# Altium integrated library Texas Instruments Interface USB.IntLib: 91 symbols (part 9 of 12)
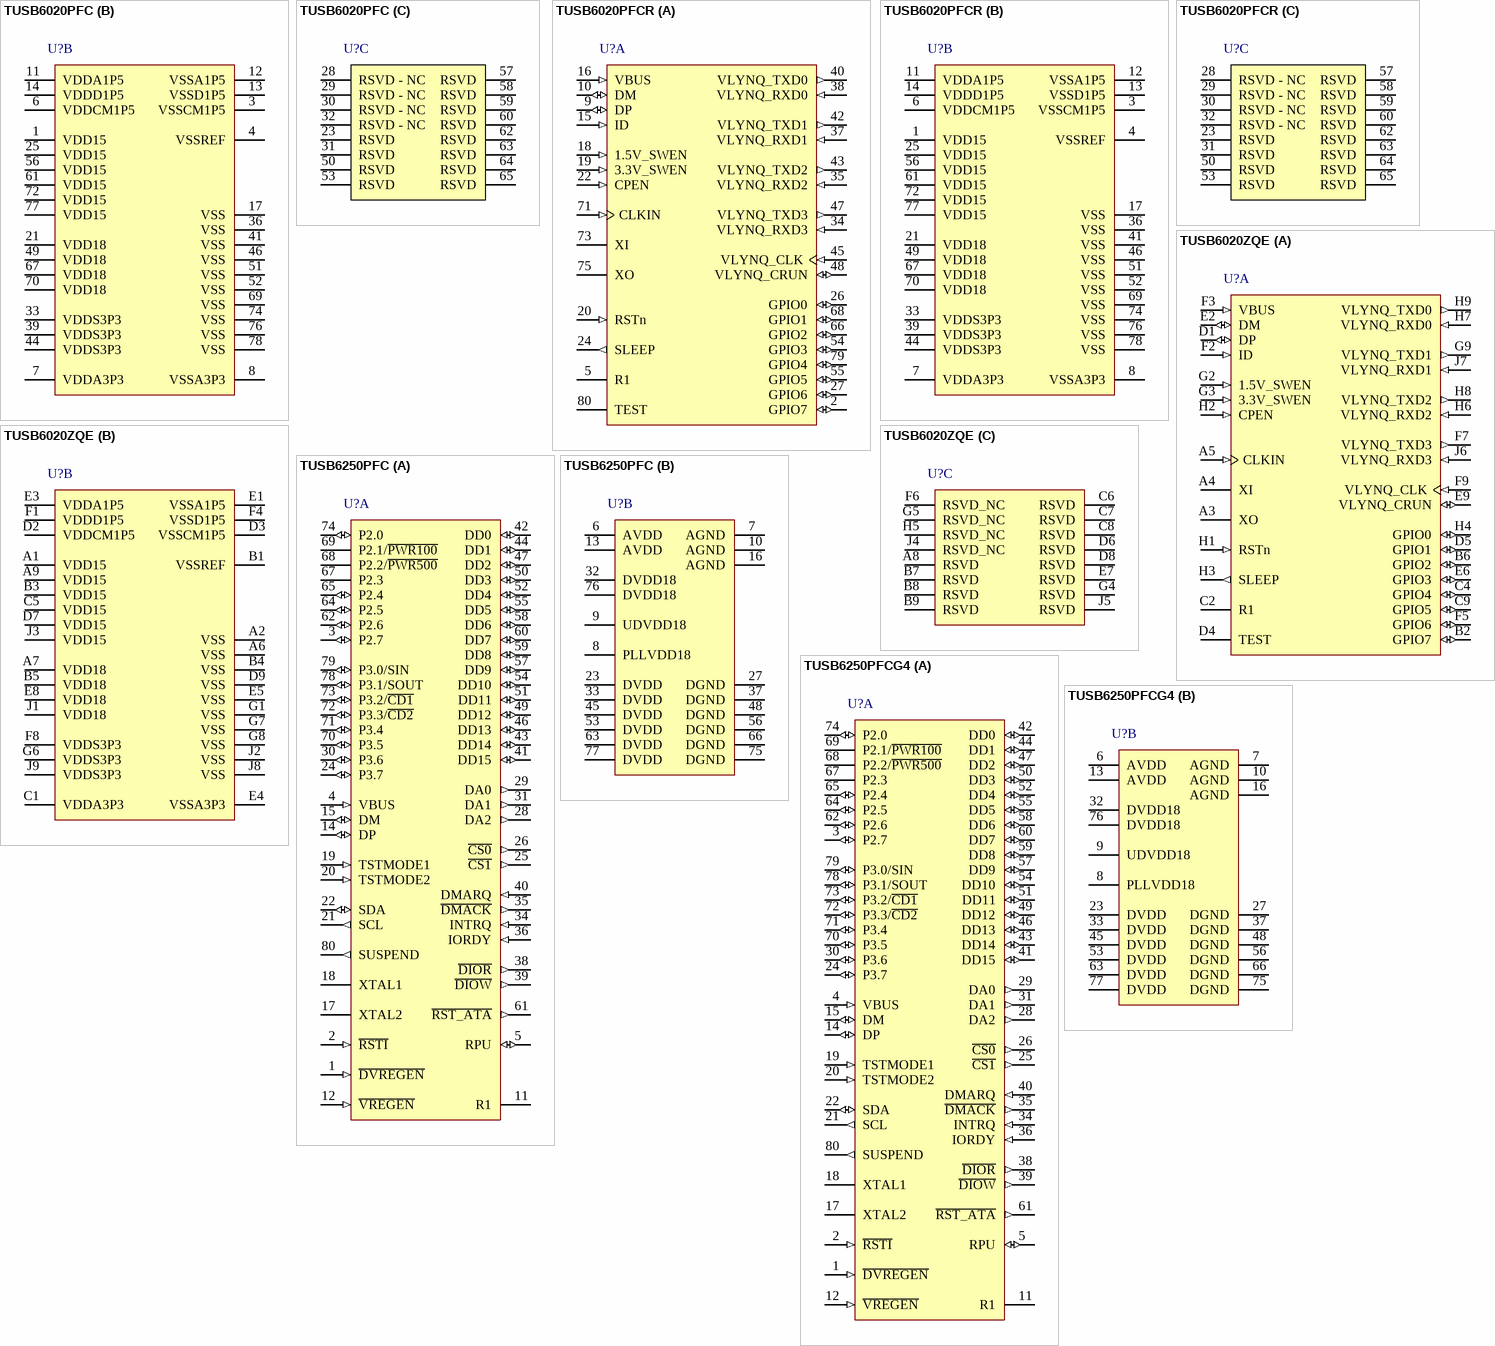
[diagram p16: symbols TUSB6020PFC to TUSB6250PFCG4]

## TUSB6250PFCG4
designator U?
30 MIPs, USB 2.0 Low-Power, High-Speed ATA/ATAPI Bridge Solution, 32 KBytes, 8051 WARP, 3.3V, 0 to 70 degC, 80-Pin TQFP (PFC), Green (RoHS & no Sb/Br); PartNumber: TUSB6250PFCG4; Manufacturer: Texas Instruments; SubFamily: USB Peripheral; MCU Speed(Max)(MIPs): 30; Number of Endpoints IN: 4; Supply Voltage(s)(V): 3.3; Application Interface: IDE, ATA, ATAPI; GPIO Pins(#): 16; USB Speed: High; Bulk Transfer: True; MCU Code Space(KBytes): 32; DatasheetVersion: SLLS535E; PackageVersion: revB, Nov-1996; PackageReference: PFC80; PackageDescription: 80-Pin Plastic Quad Flat Pack, 12 x 12 mm Body, 0.5 mm Pitch; Mounting Technology: Surface Mount; Eco-Plan: Green (RoHS & no Sb/Br); Number of Endpoints OUT: 4; Integrated MCU Architecture: 8051 WARP; Control Transfer: True; DMA: True; Interrupt Transfer: True; Remote Wakeup: True; Code_JEDEC: MS-026; ComponentLink1Description: Datasheet; ComponentLink1URL: http://www.ti.com/general/docs/lit/getliterature.tsp?genericPartNumber=TUSB6250&fileType=pdf; ComponentLink2Description: Package Specification; ComponentLink2URL: http://www.ti.com/litv/pdf/mtqf009a
footprint PFC80_N (Thin QFP, 80-Leads, Body 12x12mm, Pitch 0.5mm, IPC Medium Density)
footprint PFC80_L (Thin QFP, 80-Leads, Body 12x12mm, Pitch 0.5mm, IPC High Density)
footprint PFC80_M (Thin QFP, 80-Leads, Body 12x12mm, Pitch 0.5mm, IPC Low Density)
part A pins: 1 ~{DVREGEN} (in) "This active-low terminal is used to enable the 3.3-V to 1.8-V voltage regulator in the TUSB6250’s digital core. When this terminal is de-asserted, the voltage regulator is disabled and 1.8 V must be supplied externally. TI (See Datasheet)", 2 ~{RSTI} (in) "The TUSB6250 master reset signal. This active-low terminal is the master reset signal for the TUSB6250. See Section 13.2, Reset Timing Reference, for  detailed reset timing information.", 3 P2.7 (io) "General-purpose I/O with an internal controllable pullup resistor. After a power-on reset, this terminal defaults as an input with an internal pullup resistor activated. The MCU can disable the pullup resistor if desired", 4 VBUS (in) "This terminal monitors the status of the USB upstream VBUS. It has the internal pulldown resistor enabled as the power-on reset default.", 5 RPU (io) "Pullup resistor connection. This terminal is used to attach and detach the full-speed indicator resistor electrically to/from the DP signal line. An external 1.5-k ohm  +/-5% resistor must be placed between RPU and AVDD.", 11 R1 "External reference resistor. An internally generated band-gap voltage is placed on this resistor. The current through the resistor is mirrored internally to generate the current and voltage used by the internal analog (See Datasheet)", 12 ~{VREGEN} (in) "Voltage regulator enable (active-low). Two internal 3.3-V to 1.8-V voltage regulators supply the digital and PLL circuitry when this terminal is asserted. When this terminal is de-asserted, the voltage regulators are (See Datasheet)", 14 DP (io) "USB differential data plus", 15 DM (io) "USB differential data minus", 17 XTAL2 "24-MHz crystal output. This terminal has a 1.8-V LVCMOS output buffer", 18 XTAL1 "24-MHz crystal input. This terminal has a 1.8-V LVCMOS input buffer", 19 TSTMODE1 (in) "These terminals are used for factory test of the TUSB6250. During normal operation, these terminals must be left open", 20 TSTMODE2 (in) "These terminals are used for factory test of the TUSB6250. During normal operation, these terminals must be left open", 21 SCL (out) "Master I2C controller: clock signal for external I2C serial EEPROM. The internal 100-uA pullup resistor on this terminal is always enabled.", 22 SDA (io) "Master I2C controller: data signal for external I2C serial EEPROM. The internal 100-uA pullup resistor on this terminal is always enabled.", 24 P3.7 (io) "5-V fail-safe general-purpose I/O with internal configurable pullup and pulldown resistors. This terminal can be used as a GPIO or P\D\I\A\G\ function to be implemented by the end-product developerdeveloper’s custom firmware.(See Datasheet)", 25 ~{CS1} (out) "ATA/ATAPI: Drive chip select-1. Used to select the control block registers defined by the ATA/ATAPI-5 specification. This terminal should be connected to the corresponding pin of the ATA/ATAPI interface connector on the (See Datasheet)", 26 ~{CS0} (out) "ATA/ATAPI: Drive chip select-0. Used to select the command block registers defined by the ATA/ATAPI-5 specification. This terminal should be connected to the corresponding pin of the ATA/ATAPI interface connector on the (See Datasheet)", 28 DA2 (out) "ATA/ATAPI: These three address lines are used to select the ATA/ATAPI drive registers as defined by the ATA/ATAPI-5 specification. These terminals should be connected to the corresponding pins of the ATA/ATAPI interface (See Datasheet)", 29 DA0 (out) "ATA/ATAPI: These three address lines are used to select the ATA/ATAPI drive registers as defined by the ATA/ATAPI-5 specification. These terminals should be connected to the corresponding pins of the ATA/ATAPI interface (See Datasheet)", 30 P3.6 (io) "5-V fail-safe general-purpose I/O with internal configurable pullup and pulldown resistors. This terminal can be used as a GPIO or P\D\I\A\G\ function to be implemented by the end-product developerdeveloper’s custom firmware.(See Datasheet)", 31 DA1 (out) "ATA/ATAPI: These three address lines are used to select the ATA/ATAPI drive registers as defined by the ATA/ATAPI-5 specification. These terminals should be connected to the corresponding pins of the ATA/ATAPI interface (See Datasheet)", 34 INTRQ (in) "ATA/ATAPI: Interrupt request. The ATA device asserts this signal when it has a pending interrupt. This 5-V fail-safe terminal has internal configurable pullup and pulldown resistors. The power-up default is the pulldown (See Datasheet)", 35 ~{DMACK} (out) "ATA/ATAPI: DMA acknowledge. This terminal should be connected to the corresponding pin of the ATA/ATAPI interface connector on the end-product PCB", 36 IORDY (in) "ATA/ATAPI: Channel ready. This 5-V fail-safe terminal has internal configurable pullup and pulldown resistors. The power-up default is the pullup resistor enabled. This terminal should be connected to the corresponding pin (See Datasheet)", 38 ~{DIOR} (out) "ATA/ATAPI: Read strobe signal. This terminal should be connected to the corresponding pin of the ATA/ATAPI interface connector on the end-product PCB", 39 ~{DIOW} (out) "ATA/ATAPI: Write strobe signal. This terminal should be connected to the corresponding pin of the ATA/ATAPI interface connector on the end-product PCB", 40 DMARQ (in) "ATA/ATAPI: DMA request. This 5-V fail-safe terminal has an internal controllable pulldown resistor. The power-up default is the pulldown resistor enabled. This terminal should be connected to the corresponding pin of the (See Datasheet)", 41 DD15 (io) "ATA/ATAPI: 16-bit I/O data bus. These terminals are all 5-V fail-safe with internal controllable pulldown resistors. These terminals should be connected to the corresponding pins of the ATA/ATAPI interface connector on the (See Datasheet)", 42 DD0 (io) "ATA/ATAPI: 16-bit I/O data bus. These terminals are all 5-V fail-safe with internal controllable pulldown resistors. These terminals should be connected to the corresponding pins of the ATA/ATAPI interface connector on the (See Datasheet)", 43 DD14 (io) "ATA/ATAPI: 16-bit I/O data bus. These terminals are all 5-V fail-safe with internal controllable pulldown resistors. These terminals should be connected to the corresponding pins of the ATA/ATAPI interface connector on the (See Datasheet)", 44 DD1 (io) "ATA/ATAPI: 16-bit I/O data bus. These terminals are all 5-V fail-safe with internal controllable pulldown resistors. These terminals should be connected to the corresponding pins of the ATA/ATAPI interface connector on the (See Datasheet)", 46 DD13 (io) "ATA/ATAPI: 16-bit I/O data bus. These terminals are all 5-V fail-safe with internal controllable pulldown resistors. These terminals should be connected to the corresponding pins of the ATA/ATAPI interface connector on the (See Datasheet)", 47 DD2 (io) "ATA/ATAPI: 16-bit I/O data bus. These terminals are all 5-V fail-safe with internal controllable pulldown resistors. These terminals should be connected to the corresponding pins of the ATA/ATAPI interface connector on the (See Datasheet)", 49 DD12 (io) "ATA/ATAPI: 16-bit I/O data bus. These terminals are all 5-V fail-safe with internal controllable pulldown resistors. These terminals should be connected to the corresponding pins of the ATA/ATAPI interface connector on the (See Datasheet)", 50 DD3 (io) "ATA/ATAPI: 16-bit I/O data bus. These terminals are all 5-V fail-safe with internal controllable pulldown resistors. These terminals should be connected to the corresponding pins of the ATA/ATAPI interface connector on the (See Datasheet)", 51 DD11 (io) "ATA/ATAPI: 16-bit I/O data bus. These terminals are all 5-V fail-safe with internal controllable pulldown resistors. These terminals should be connected to the corresponding pins of the ATA/ATAPI interface connector on the (See Datasheet)", 52 DD4 (io) "ATA/ATAPI: 16-bit I/O data bus. These terminals are all 5-V fail-safe with internal controllable pulldown resistors. These terminals should be connected to the corresponding pins of the ATA/ATAPI interface connector on the (See Datasheet)", 54 DD10 (io) "ATA/ATAPI: 16-bit I/O data bus. These terminals are all 5-V fail-safe with internal controllable pulldown resistors. These terminals should be connected to the corresponding pins of the ATA/ATAPI interface connector on the (See Datasheet)", 55 DD5 (io) "ATA/ATAPI: 16-bit I/O data bus. These terminals are all 5-V fail-safe with internal controllable pulldown resistors. These terminals should be connected to the corresponding pins of the ATA/ATAPI interface connector on the (See Datasheet)", 57 DD9 (io) "ATA/ATAPI: 16-bit I/O data bus. These terminals are all 5-V fail-safe with internal controllable pulldown resistors. These terminals should be connected to the corresponding pins of the ATA/ATAPI interface connector on the (See Datasheet)", 58 DD6 (io) "ATA/ATAPI: 16-bit I/O data bus. These terminals are all 5-V fail-safe with internal controllable pulldown resistors. These terminals should be connected to the corresponding pins of the ATA/ATAPI interface connector on the (See Datasheet)", 59 DD8 (io) "ATA/ATAPI: 16-bit I/O data bus. These terminals are all 5-V fail-safe with internal controllable pulldown resistors. These terminals should be connected to the corresponding pins of the ATA/ATAPI interface connector on the (See Datasheet)", 60 DD7 (io) "ATA/ATAPI: 16-bit I/O data bus. These terminals are all 5-V fail-safe with internal controllable pulldown resistors. These terminals should be connected to the corresponding pins of the ATA/ATAPI interface connector on the (See Datasheet)", 61 ~{RST_ATA} (out) "ATA/ATAPI: Asynchronous drive-reset signal. This terminal should be connected to the corresponding pin of the ATA/ATAPI interface connector on the end-product PCB", 62 P2.6 (io) "5-V fail-safe general-purpose I/O with internal configurable pullup and pulldown resistors. After power-on reset, these terminals default as inputs with the internal pullup resistor activated. The MCU can reconfigure the (See Datasheet)", 64 P2.5 (io) "5-V fail-safe general-purpose I/O with internal configurable pullup and pulldown resistors. After power-on reset, these terminals default as inputs with the internal pullup resistor activated. The MCU can reconfigure the (See Datasheet)", 65 P2.4 (io) "5-V fail-safe general-purpose I/O with internal configurable pullup and pulldown resistors. After power-on reset, these terminals default as inputs with the internal pullup resistor activated. The MCU can reconfigure the (See Datasheet)", 67 P2.3 (oc) "General-purpose open-drain output without internal pullup and pulldown resistors", 68 P2.2/~{PWR500} (oc) "General-purpose open-drain output. This terminal can be controlled by the firmware to inform the ATA/ATAPI device connected to the TUSB6250 that the end-product device (including the TUSB6250 itself) is allowed to draw 500 (See Datasheet)", 69 P2.1/~{PWR100} (oc) "General-purpose open-drain output. During the USB enumeration phase, This terminal is asserted by the boot code to inform the ATA/ATAPI device connected to the TUSB6250 that the end-product device (including the TUSB6250 (See Datasheet)", 70 P3.5 (io) "5-V fail-safe general-purpose I/O with internal configurable pullup and pulldown resistors. After power-on reset, these terminals default as inputs with an internal pullup resistor activated. The MCU can reconfigure the (See Datasheet)", 71 P3.4 (io) "5-V fail-safe general-purpose I/O with internal configurable pullup and pulldown resistors. After power-on reset, these terminals default as inputs with an internal pullup resistor activated. The MCU can reconfigure the (See Datasheet)", 72 P3.3/~{CD2} (io) "5-V fail-safe general-purpose I/O with internal configurable pullup and pulldown resistors. After power-on reset, these terminals default as inputs with an internal pullup resistor activated. The MCU can reconfigure the (See Datasheet)", 73 P3.2/~{CD1} (io) "5-V fail-safe general-purpose I/O with internal configurable pullup and pulldown resistors. After power-on reset, these terminals default as inputs with an internal pullup resistor activated. The MCU can reconfigure the (See Datasheet)", 74 P2.0 (io) "5-V fail-safe general-purpose I/O with internal configurable pullup and pulldown resistors. After power-on reset, this terminal defaults as an input with the internal pulldown resistor activated. The MCU can reconfigure the (See Datasheet)", 78 P3.1/SOUT (io) "This dual-function terminal can be used as either GPIO or the serial data output of the integrated 8051 microcontroller serial port. The power-up default is to have its internal pullup activated", 79 P3.0/SIN (io) "This dual-function terminal can be used as either GPIO or the serial data input of the integrated 8051 microcontroller serial port. The power-up default is to have its internal pullup activated", 80 SUSPEND (out) "Suspend status indication. This terminal is low during normal operation and active high during suspend. It can be used for external logic power-down operations"
part B pins: 6 AVDD (power) "3.3-V supply voltage for the integrated USB 2.0 UTMI-compliant PHY’s internal analog circuitry. This supply is also regulated internally down to 1.8 V for use by the PHY’s internal digital circuitry when V\R\E\G\E\N\ is (See Datasheet)", 7 AGND (power) "Analog ground. All ground terminals should be connected together externally through a low-impedance path. All bypass capacitors to PLLVDD18, UDVDD18, and AVDD should connect to ground through a low-impedance path", 8 PLLVDD18 (power) "1.8-V supply for the internal PLL circuitry of the integrated USB 2.0 UTMI-compliant PHY. An internal voltage regulator generates this supply when terminal V\R\E\G\E\N\ is asserted. When V\R\E\G\E\N\ is de-asserted, 1.8 V (See Datasheet)", 9 UDVDD18 (power) "1.92-V supply for the internal digital circuitry of the integrated USB 2.0 UTMI-compliant PHY. An internal voltage regulator generates this supply when terminal V\R\E\G\E\N\ is asserted. When V\R\E\G\E\N\ is de-asserted, 1.(See Datasheet)", 10 AGND (power) "Analog ground. All ground terminals should be connected together externally through a low-impedance path. All bypass capacitors to PLLVDD18, UDVDD18, and AVDD should connect to ground through a low-impedance path", 13 AVDD (power) "3.3-V supply voltage for the integrated USB 2.0 UTMI-compliant PHY’s internal analog circuitry. This supply is also regulated internally down to 1.8 V for use by the PHY’s internal digital circuitry when V\R\E\G\E\N\ is (See Datasheet)", 16 AGND (power) "Analog ground. All ground terminals should be connected together externally through a low-impedance path. All bypass capacitors to PLLVDD18, UDVDD18, and AVDD should connect to ground through a low-impedance path", 23 DVDD (power) "3.3-V power-supply terminals for the internal I/O circuitry. Decoupling and filtering capacitors are required on these power supply terminals", 27 DGND (power) "Digital circuit ground terminals. Each ground terminal should be directly connected through a low-impedance path to the ground plane", 32 DVDD18 (power) "1.8-V power supply for the internal digital circuitry of the TUSB6250. An internal voltage regulator generates this supply voltage when terminal D\V\R\E\G\E\N\ is asserted. When D\V\R\E\G\E\N\ is de-asserted, 1.8 V must be (See Datasheet)", 33 DVDD (power) "3.3-V power-supply terminals for the internal I/O circuitry. Decoupling and filtering capacitors are required on these power supply terminals", 37 DGND (power) "Digital circuit ground terminals. Each ground terminal should be directly connected through a low-impedance path to the ground plane", 45 DVDD (power) "3.3-V power-supply terminals for the internal I/O circuitry. Decoupling and filtering capacitors are required on these power supply terminals", 48 DGND (power) "Digital circuit ground terminals. Each ground terminal should be directly connected through a low-impedance path to the ground plane", 53 DVDD (power) "3.3-V power-supply terminals for the internal I/O circuitry. Decoupling and filtering capacitors are required on these power supply terminals", 56 DGND (power) "Digital circuit ground terminals. Each ground terminal should be directly connected through a low-impedance path to the ground plane", 63 DVDD (power) "3.3-V power-supply terminals for the internal I/O circuitry. Decoupling and filtering capacitors are required on these power supply terminals", 66 DGND (power) "Digital circuit ground terminals. Each ground terminal should be directly connected through a low-impedance path to the ground plane", 75 DGND (power) "Digital circuit ground terminals. Each ground terminal should be directly connected through a low-impedance path to the ground plane", 76 DVDD18 (power) "1.8-V power supply for the internal digital circuitry of the TUSB6250. An internal voltage regulator generates this supply voltage when terminal D\V\R\E\G\E\N\ is asserted. When D\V\R\E\G\E\N\ is de-asserted, 1.8 V must be (See Datasheet)", 77 DVDD (power) "3.3-V power-supply terminals for the internal I/O circuitry. Decoupling and filtering capacitors are required on these power supply terminals"

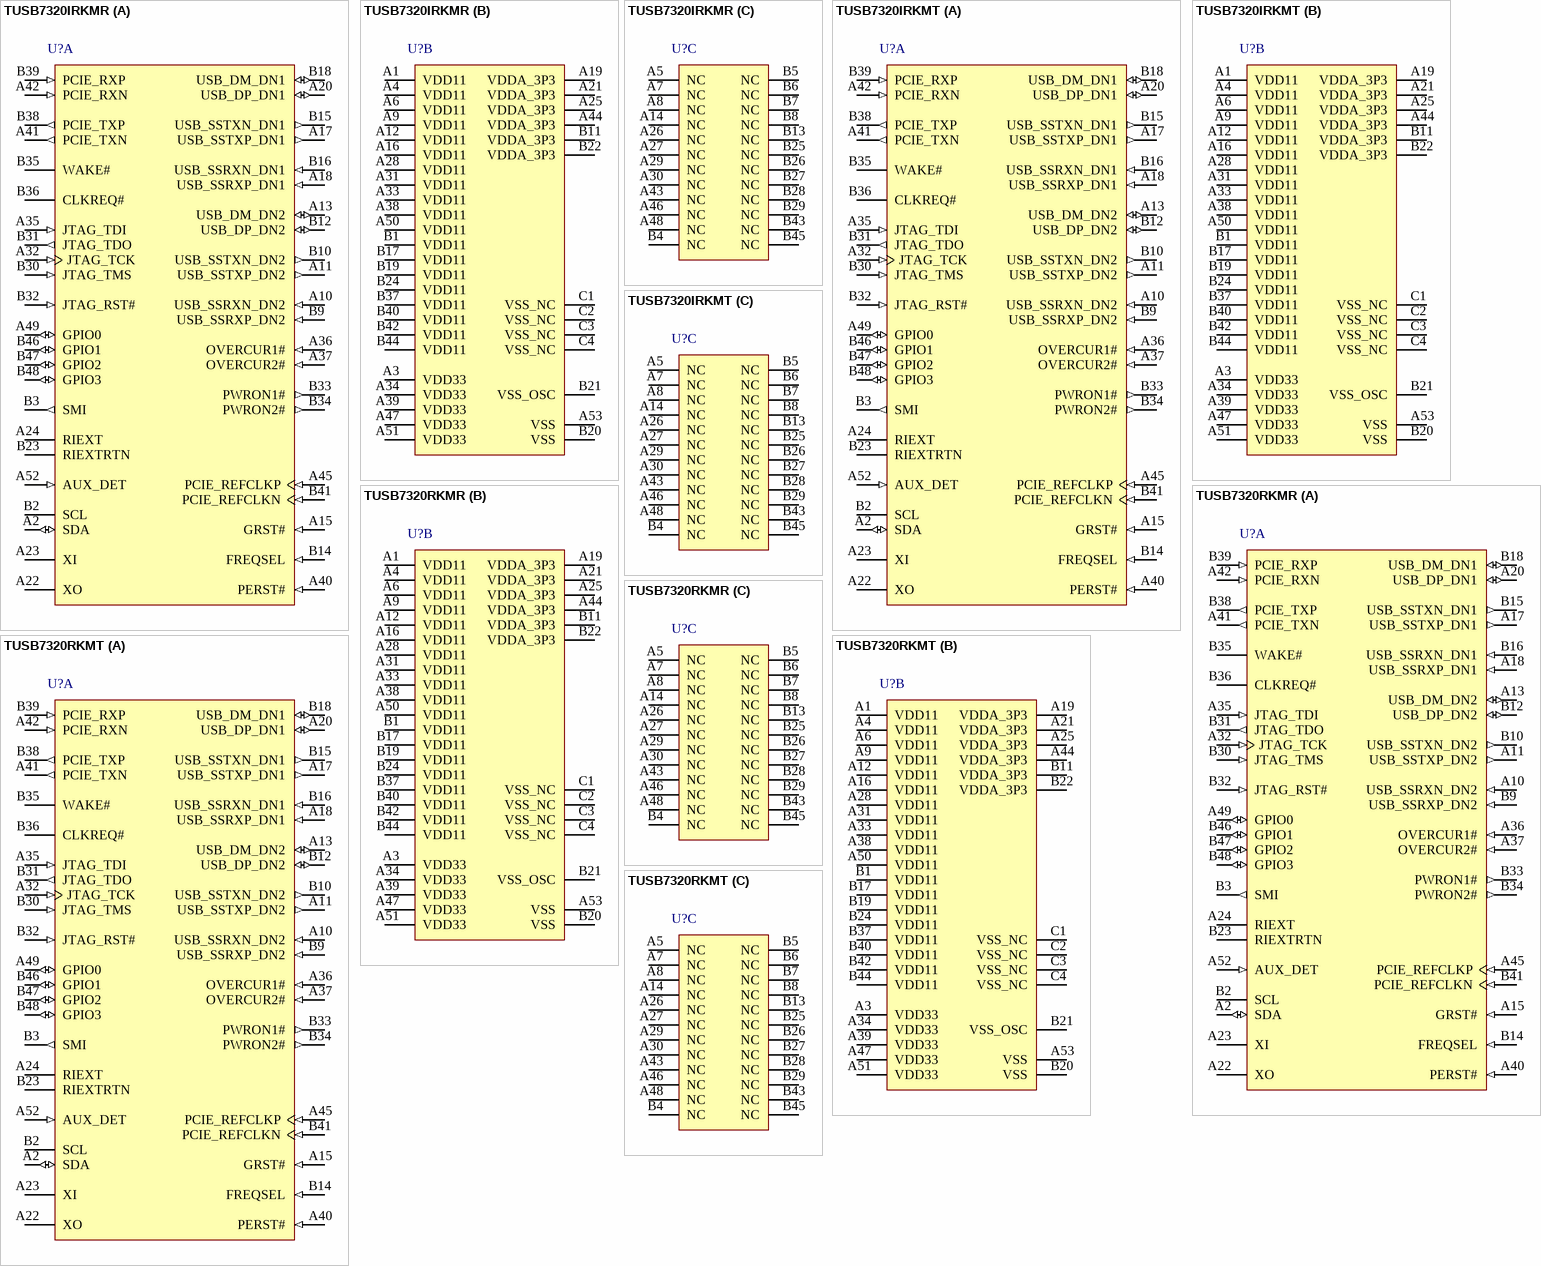
[diagram p6: symbols TUSB7320IRKMR to TUSB7320RKMT]

## TUSB7320IRKMR
designator U?
SuperSpeed USB 2-Port xHCI Host Controller, 1.1 / 3.3V, -40 to 85 degC, 100-Pin WQFN (RKM), Green (RoHS & no Sb/Br); PartNumber: TUSB7320IRKMR; Manufacturer: Texas Instruments; SubFamily: USB Host and On-the-Go; Supply Voltage(s)(V): 3.3, 1.1; Max# Host Ports: 2; App Proc Local Bus: x1 PCIe Gen2; DatasheetVersion: SLLSE76H; PackageVersion: revC, Oct-2011; PackageReference: RKM100-5500X5500TP; PackageDescription: 100-Pin Plastic Quad Flatpack No-Lead 0.6 mm Pitch; Mounting Technology: Surface Mount; Eco-Plan: Green (RoHS & no Sb/Br); USB Speed: SuperSpeed; ComponentLink1Description: Datasheet; ComponentLink1URL: http://www.ti.com/general/docs/lit/getliterature.tsp?genericPartNumber=TUSB7320&fileType=pdf; ComponentLink2Description: Package Specification; ComponentLink2URL: http://www.ti.com/litv/pdf/mpqf258b
footprint RKM100-5500X5500TP (QFN, 100-Leads, Body 9x9mm, Pitch 0.6mm, Thermal Pad 4.6x4.6mm, TI Recommended)
part A pins: A2 SDA (io) "I2C Data - If no I2C device is present, pull this line down to disable.", A10 USB_SSRXN_DN2 (in) "USB SuperSpeed receiver differential pair (negative). Note: When routing, it is permissible to swap the positive and negative signals in Port 2 SSRX differential pair.", A11 USB_SSTXP_DN2 (out) "USB SuperSpeed transmitter differential pair (positive).  Note: When routing, it is permissible to swap the positive and negative signals in Port 2 SSTX differential pair.", A13 USB_DM_DN2 (io) "USB High-speed differential transceiver (negative).", A15 GRST# (in) "Global power reset. This reset brings all of the TUSB73x0 internal registers to their defaut states.When GRST# is asserted,the device is completely nonfunctional.GRST# should be asserted until all power rails are valid at the device", A17 USB_SSTXP_DN1 (out) "USB SuperSpeed transmitter differential pair(postive).Note:When routing,it is permissible to sawp the positive and negative signals in port 1 SSTX differential pair", A18 USB_SSRXP_DN1 (in) "USB SuperSpeed receiver differential pair(postive).Note:When routing,it is permissible to sawp the positive and negative signals in port 1 SSRX differential pair", A20 USB_DP_DN1 (io) "USB High-speed differential transceiver (positive).", A22 XO "Crystal output. This terminal is crystal output for the internal oscillator. If XI is driven by an external oscillator this pin may be left unconnected. When using a crystal a 2-M ohm feedback resistor is required between XI and XO.", A23 XI "Crystal input. This terminal is the crystal input for the internal oscillator. The input may alternately be driven by the output of an external oscillator. When using a crystal a 2-M ohm feedback resistor is required between XI and XO.", A24 RIEXT "High precision external resistor used for calibration. A resister value of 9.09 Kohm +/-1%accuracy is connected between the terminals R1EXT and R1EXTRTN.", A32 JTAG_TCK (in) "JTAG test clock", A35 JTAG_TDI (in) "JTAG test data in", A36 OVERCUR1# (in) "USB DS Port 1 Over-Current Detection.0: over-current detected; 1: over-current not detected", A37 OVERCUR2# (in) "USB DS Port 2 Over-Current Detection.0: over-current detected; 1: over-current not detected", A40 PERST# (in) "PCI Express Reset Input. The PERST# signal is used to signal when the system power is stable. The PERST# signal is also used to generate an internal power on reset", A41 PCIE_TXN (out) "PCI Express transmitter differential pair (negative).", A42 PCIE_RXN (in) "PCI Express receiver differential pair (negative).", A45 PCIE_REFCLKP (in) "PCI Express Reference Clock. PCIE_REFCLKP and PCIE_REFCLKN comprise the differential input pair for the 100-MHz system reference clock.", A49 GPIO0 (io) "General purpose I/O", A52 AUX_DET (in) "Auxiliary power detect. This pin indicates if the TUSB73X0 is enabled for wakeup from D3cold. Note: If this feature is implemented, AUX_DET must be pulled to VDD33 to prevent leakage.", B2 SCL (hiz) "I2C Clock - If no I2C device is present, pull this line down to disable.", B3 SMI (out) "System management interrupt Note: This pin is active high and should not be pulled up/down.", B9 USB_SSRXP_DN2 (in) "USB SuperSpeed receiver differential pair (positive). Note: When routing, it is permissible to swap the positive and negative signals in Port 2 SSRX differential pair.", B10 USB_SSTXN_DN2 (out) "USB SuperSpeed transmitter differential pair (negative).Note: When routing, it is permissible to swap the positive and negative signals in Port 2 SSTX differential pair.", B12 USB_DP_DN2 (io) "USB High-speed differential transceiver (positive).", B14 FREQSEL (in) "Frequency select. This terminal indicates the oscillator input frequency and is used to configure the correct PLL multiplier. If the FREQSEL pin is '0', the frequency used is 48 MHz. If the FREQSEL pin is '1', refer to Table 4-100: USB Control Register D", B15 USB_SSTXN_DN1 (out) "USB SuperSpeed transmitter differential pair (negative).Note: When routing, it is permissible to swap the positive and negative signals in Port 1 SSTX differential pair.", B16 USB_SSRXN_DN1 (in) "USB SuperSpeed receiver differential pair(negative).Note:When routing,it is permissible to sawp the positive and negative signals in port 1 SSrX differential pair", B18 USB_DM_DN1 (io) "USB High-speed differential transceiver (negative).", B23 RIEXTRTN "High precision external resistor used for calibration. A resister value of 9.09 Kohm +/-1%accuracy is connected between the terminals R1EXT and R1EXTRTN.", B30 JTAG_TMS (in) "JTAG test mode select", B31 JTAG_TDO (out) "JTAG test data out", B32 JTAG_RST# (in) "JTAG reset. Should be pulled low for normal operation.", B33 PWRON1# (out) "USB DS Port 1 Power On Control for Downstream Power. The terminal is used for control of the downstream power switch. If the PWRON_POLARITY bit is set to", B34 PWRON2# (out) "USB DS Port 2 Power On Control for Downstream Power. The terminal is used for control of the downstream power switch. If the PWRON_POLARITY bit is set to", B35 WAKE# "Wake. Wake is an active low signal that is driven low to reactivate the PCI Express link hierarchy's main power rails and reference clocks.Note:WAKE# is a failsafe I/O and can be connected to a 3.3-V auxiliary supply while VDD33 is not present.", B36 CLKREQ# "PCI Express REFCLK Request signal.Note: CLKREQ# is a failsafe I/O and can be connected to a 3.3-V auxiliary supply while VDD33 is not present.", B38 PCIE_TXP (out) "PCI Express transmitter differential pair (positive).", B39 PCIE_RXP (in) "PCI Express receiver differential pair (positive).", B41 PCIE_REFCLKN (in) "PCI Express Reference Clock. PCIE_REFCLKP and PCIE_REFCLKN comprise the differential input pair for the 100-MHz system reference clock.", B46 GPIO1 (io) "General purpose I/O", B47 GPIO2 (io) "General purpose I/O", B48 GPIO3 (io) "General purpose I/O"
part B pins: A1 VDD11 (power) "1.1-V core power rail", A3 VDD33 (power) "3.3-V I/O power rail", A4 VDD11 (power) "1.1-V core power rail", A6 VDD11 (power) "1.1-V core power rail", A9 VDD11 (power) "1.1-V core power rail", A12 VDD11 (power) "1.1-V core power rail", A16 VDD11 (power) "1.1-V core power rail", A19 VDDA_3P3 (power) "3.3-V analog power rail", A21 VDDA_3P3 (power) "3.3-V analog power rail", A25 VDDA_3P3 (power) "3.3-V analog power rail", A28 VDD11 (power) "1.1-V core power rail", A31 VDD11 (power) "1.1-V core power rail", A33 VDD11 (power) "1.1-V core power rail", A34 VDD33 (power) "3.3-V I/O power rail", A38 VDD11 (power) "1.1-V core power rail", A39 VDD33 (power) "3.3-V I/O power rail", A44 VDDA_3P3 (power) "3.3-V analog power rail", A47 VDD33 (power) "3.3-V I/O power rail", A50 VDD11 (power) "1.1-V core power rail", A51 VDD33 (power) "3.3-V I/O power rail", A53 VSS (power) "Ground. The ground pad is labeled A53 for schematic purposes.", B1 VDD11 (power) "1.1-V core power rail", B11 VDDA_3P3 (power) "3.3-V analog power rail", B17 VDD11 (power) "1.1-V core power rail", B19 VDD11 (power) "1.1-V core power rail", B20 VSS (power) "Ground. The ground pad is labeled A53 for schematic purposes.", B21 VSS_OSC (power) "Oscillator return.If using a crystal, the load capacitors should use this signal as the return path and it should not be connected to the PCB ground. If using an oscillator, this should be connected to PCB Ground.", B22 VDDA_3P3 (power) "3.3-V analog power rail", B24 VDD11 (power) "1.1-V core power rail", B37 VDD11 (power) "1.1-V core power rail", B40 VDD11 (power) "1.1-V core power rail", B42 VDD11 (power) "1.1-V core power rail", B44 VDD11 (power) "1.1-V core power rail", C1 VSS_NC (power) "The corner pins, which are for mechanical stability of the package, are connected to ground internally. These pins may be connected to VSS or left unconnected.", C2 VSS_NC (power) "The corner pins, which are for mechanical stability of the package, are connected to ground internally. These pins may be connected to VSS or left unconnected.", C3 VSS_NC (power) "The corner pins, which are for mechanical stability of the package, are connected to ground internally. These pins may be connected to VSS or left unconnected.", C4 VSS_NC (power) "The corner pins, which are for mechanical stability of the package, are connected to ground internally. These pins may be connected to VSS or left unconnected."
part C pins: A5 NC "Pins are not connected internally. Note: TUSB7320 pins B4 and B26 may be connected to VDDA_3P3 to support a dual-layout option with theTUSB7340.", A7 NC "Pins are not connected internally. Note: TUSB7320 pins B4 and B26 may be connected to VDDA_3P3 to support a dual-layout option with theTUSB7340.", A8 NC "Pins are not connected internally. Note: TUSB7320 pins B4 and B26 may be connected to VDDA_3P3 to support a dual-layout option with theTUSB7340.", A14 NC "Pins are not connected internally. Note: TUSB7320 pins B4 and B26 may be connected to VDDA_3P3 to support a dual-layout option with theTUSB7340.", A26 NC "Pins are not connected internally. Note: TUSB7320 pins B4 and B26 may be connected to VDDA_3P3 to support a dual-layout option with theTUSB7340.", A27 NC "Pins are not connected internally. Note: TUSB7320 pins B4 and B26 may be connected to VDDA_3P3 to support a dual-layout option with theTUSB7340.", A29 NC "Pins are not connected internally. Note: TUSB7320 pins B4 and B26 may be connected to VDDA_3P3 to support a dual-layout option with theTUSB7340.", A30 NC "Pins are not connected internally. Note: TUSB7320 pins B4 and B26 may be connected to VDDA_3P3 to support a dual-layout option with theTUSB7340.", A43 NC "Pins are not connected internally. Note: TUSB7320 pins B4 and B26 may be connected to VDDA_3P3 to support a dual-layout option with theTUSB7340.", A46 NC "Pins are not connected internally. Note: TUSB7320 pins B4 and B26 may be connected to VDDA_3P3 to support a dual-layout option with theTUSB7340.", A48 NC "Pins are not connected internally. Note: TUSB7320 pins B4 and B26 may be connected to VDDA_3P3 to support a dual-layout option with theTUSB7340.", B4 NC "Pins are not connected internally. Note: TUSB7320 pins B4 and B26 may be connected to VDDA_3P3 to support a dual-layout option with theTUSB7340.", B5 NC "Pins are not connected internally. Note: TUSB7320 pins B4 and B26 may be connected to VDDA_3P3 to support a dual-layout option with theTUSB7340.", B6 NC "Pins are not connected internally. Note: TUSB7320 pins B4 and B26 may be connected to VDDA_3P3 to support a dual-layout option with theTUSB7340.", B7 NC "Pins are not connected internally. Note: TUSB7320 pins B4 and B26 may be connected to VDDA_3P3 to support a dual-layout option with theTUSB7340.", B8 NC "Pins are not connected internally. Note: TUSB7320 pins B4 and B26 may be connected to VDDA_3P3 to support a dual-layout option with theTUSB7340.", B13 NC "Pins are not connected internally. Note: TUSB7320 pins B4 and B26 may be connected to VDDA_3P3 to support a dual-layout option with theTUSB7340.", B25 NC "Pins are not connected internally. Note: TUSB7320 pins B4 and B26 may be connected to VDDA_3P3 to support a dual-layout option with theTUSB7340.", B26 NC "Pins are not connected internally. Note: TUSB7320 pins B4 and B26 may be connected to VDDA_3P3 to support a dual-layout option with theTUSB7340.", B27 NC "Pins are not connected internally. Note: TUSB7320 pins B4 and B26 may be connected to VDDA_3P3 to support a dual-layout option with theTUSB7340.", B28 NC "Pins are not connected internally. Note: TUSB7320 pins B4 and B26 may be connected to VDDA_3P3 to support a dual-layout option with theTUSB7340.", B29 NC "Pins are not connected internally. Note: TUSB7320 pins B4 and B26 may be connected to VDDA_3P3 to support a dual-layout option with theTUSB7340.", B43 NC "Pins are not connected internally. Note: TUSB7320 pins B4 and B26 may be connected to VDDA_3P3 to support a dual-layout option with theTUSB7340.", B45 NC "Pins are not connected internally. Note: TUSB7320 pins B4 and B26 may be connected to VDDA_3P3 to support a dual-layout option with theTUSB7340."

## TUSB7320IRKMT
designator U?
SuperSpeed USB 2-Port xHCI Host Controller, 1.1 / 3.3V, -40 to 85 degC, 100-Pin WQFN (RKM), Green (RoHS & no Sb/Br); PartNumber: TUSB7320IRKMT; Manufacturer: Texas Instruments; SubFamily: USB Host and On-the-Go; Supply Voltage(s)(V): 3.3, 1.1; Max# Host Ports: 2; App Proc Local Bus: x1 PCIe Gen2; DatasheetVersion: SLLSE76H; PackageVersion: revC, Oct-2011; PackageReference: RKM100-5500X5500TP; PackageDescription: 100-Pin Plastic Quad Flatpack No-Lead 0.6 mm Pitch; Mounting Technology: Surface Mount; Eco-Plan: Green (RoHS & no Sb/Br); USB Speed: SuperSpeed; ComponentLink1Description: Datasheet; ComponentLink1URL: http://www.ti.com/general/docs/lit/getliterature.tsp?genericPartNumber=TUSB7320&fileType=pdf; ComponentLink2Description: Package Specification; ComponentLink2URL: http://www.ti.com/litv/pdf/mpqf258b
footprint RKM100-5500X5500TP (QFN, 100-Leads, Body 9x9mm, Pitch 0.6mm, Thermal Pad 4.6x4.6mm, TI Recommended)
part A pins: A2 SDA (io) "I2C Data - If no I2C device is present, pull this line down to disable.", A10 USB_SSRXN_DN2 (in) "USB SuperSpeed receiver differential pair (negative). Note: When routing, it is permissible to swap the positive and negative signals in Port 2 SSRX differential pair.", A11 USB_SSTXP_DN2 (out) "USB SuperSpeed transmitter differential pair (positive).  Note: When routing, it is permissible to swap the positive and negative signals in Port 2 SSTX differential pair.", A13 USB_DM_DN2 (io) "USB High-speed differential transceiver (negative).", A15 GRST# (in) "Global power reset. This reset brings all of the TUSB73x0 internal registers to their defaut states.When GRST# is asserted,the device is completely nonfunctional.GRST# should be asserted until all power rails are valid at the device", A17 USB_SSTXP_DN1 (out) "USB SuperSpeed transmitter differential pair(postive).Note:When routing,it is permissible to sawp the positive and negative signals in port 1 SSTX differential pair", A18 USB_SSRXP_DN1 (in) "USB SuperSpeed receiver differential pair(postive).Note:When routing,it is permissible to sawp the positive and negative signals in port 1 SSRX differential pair", A20 USB_DP_DN1 (io) "USB High-speed differential transceiver (positive).", A22 XO "Crystal output. This terminal is crystal output for the internal oscillator. If XI is driven by an external oscillator this pin may be left unconnected. When using a crystal a 2-M ohm feedback resistor is required between XI and XO.", A23 XI "Crystal input. This terminal is the crystal input for the internal oscillator. The input may alternately be driven by the output of an external oscillator. When using a crystal a 2-M ohm feedback resistor is required between XI and XO.", A24 RIEXT "High precision external resistor used for calibration. A resister value of 9.09 Kohm +/-1%accuracy is connected between the terminals R1EXT and R1EXTRTN.", A32 JTAG_TCK (in) "JTAG test clock", A35 JTAG_TDI (in) "JTAG test data in", A36 OVERCUR1# (in) "USB DS Port 1 Over-Current Detection.0: over-current detected; 1: over-current not detected", A37 OVERCUR2# (in) "USB DS Port 2 Over-Current Detection.0: over-current detected; 1: over-current not detected", A40 PERST# (in) "PCI Express Reset Input. The PERST# signal is used to signal when the system power is stable. The PERST# signal is also used to generate an internal power on reset", A41 PCIE_TXN (out) "PCI Express transmitter differential pair (negative).", A42 PCIE_RXN (in) "PCI Express receiver differential pair (negative).", A45 PCIE_REFCLKP (in) "PCI Express Reference Clock. PCIE_REFCLKP and PCIE_REFCLKN comprise the differential input pair for the 100-MHz system reference clock.", A49 GPIO0 (io) "General purpose I/O", A52 AUX_DET (in) "Auxiliary power detect. This pin indicates if the TUSB73X0 is enabled for wakeup from D3cold. Note: If this feature is implemented, AUX_DET must be pulled to VDD33 to prevent leakage.", B2 SCL (hiz) "I2C Clock - If no I2C device is present, pull this line down to disable.", B3 SMI (out) "System management interrupt Note: This pin is active high and should not be pulled up/down.", B9 USB_SSRXP_DN2 (in) "USB SuperSpeed receiver differential pair (positive). Note: When routing, it is permissible to swap the positive and negative signals in Port 2 SSRX differential pair.", B10 USB_SSTXN_DN2 (out) "USB SuperSpeed transmitter differential pair (negative).Note: When routing, it is permissible to swap the positive and negative signals in Port 2 SSTX differential pair.", B12 USB_DP_DN2 (io) "USB High-speed differential transceiver (positive).", B14 FREQSEL (in) "Frequency select. This terminal indicates the oscillator input frequency and is used to configure the correct PLL multiplier. If the FREQSEL pin is '0', the frequency used is 48 MHz. If the FREQSEL pin is '1', refer to Table 4-100: USB Control Register D", B15 USB_SSTXN_DN1 (out) "USB SuperSpeed transmitter differential pair (negative).Note: When routing, it is permissible to swap the positive and negative signals in Port 1 SSTX differential pair.", B16 USB_SSRXN_DN1 (in) "USB SuperSpeed receiver differential pair(negative).Note:When routing,it is permissible to sawp the positive and negative signals in port 1 SSrX differential pair", B18 USB_DM_DN1 (io) "USB High-speed differential transceiver (negative).", B23 RIEXTRTN "High precision external resistor used for calibration. A resister value of 9.09 Kohm +/-1%accuracy is connected between the terminals R1EXT and R1EXTRTN.", B30 JTAG_TMS (in) "JTAG test mode select", B31 JTAG_TDO (out) "JTAG test data out", B32 JTAG_RST# (in) "JTAG reset. Should be pulled low for normal operation.", B33 PWRON1# (out) "USB DS Port 1 Power On Control for Downstream Power. The terminal is used for control of the downstream power switch. If the PWRON_POLARITY bit is set to", B34 PWRON2# (out) "USB DS Port 2 Power On Control for Downstream Power. The terminal is used for control of the downstream power switch. If the PWRON_POLARITY bit is set to", B35 WAKE# "Wake. Wake is an active low signal that is driven low to reactivate the PCI Express link hierarchy's main power rails and reference clocks.Note:WAKE# is a failsafe I/O and can be connected to a 3.3-V auxiliary supply while VDD33 is not present.", B36 CLKREQ# "PCI Express REFCLK Request signal.Note: CLKREQ# is a failsafe I/O and can be connected to a 3.3-V auxiliary supply while VDD33 is not present.", B38 PCIE_TXP (out) "PCI Express transmitter differential pair (positive).", B39 PCIE_RXP (in) "PCI Express receiver differential pair (positive).", B41 PCIE_REFCLKN (in) "PCI Express Reference Clock. PCIE_REFCLKP and PCIE_REFCLKN comprise the differential input pair for the 100-MHz system reference clock.", B46 GPIO1 (io) "General purpose I/O", B47 GPIO2 (io) "General purpose I/O", B48 GPIO3 (io) "General purpose I/O"
part B pins: A1 VDD11 (power) "1.1-V core power rail", A3 VDD33 (power) "3.3-V I/O power rail", A4 VDD11 (power) "1.1-V core power rail", A6 VDD11 (power) "1.1-V core power rail", A9 VDD11 (power) "1.1-V core power rail", A12 VDD11 (power) "1.1-V core power rail", A16 VDD11 (power) "1.1-V core power rail", A19 VDDA_3P3 (power) "3.3-V analog power rail", A21 VDDA_3P3 (power) "3.3-V analog power rail", A25 VDDA_3P3 (power) "3.3-V analog power rail", A28 VDD11 (power) "1.1-V core power rail", A31 VDD11 (power) "1.1-V core power rail", A33 VDD11 (power) "1.1-V core power rail", A34 VDD33 (power) "3.3-V I/O power rail", A38 VDD11 (power) "1.1-V core power rail", A39 VDD33 (power) "3.3-V I/O power rail", A44 VDDA_3P3 (power) "3.3-V analog power rail", A47 VDD33 (power) "3.3-V I/O power rail", A50 VDD11 (power) "1.1-V core power rail", A51 VDD33 (power) "3.3-V I/O power rail", A53 VSS (power) "Ground. The ground pad is labeled A53 for schematic purposes.", B1 VDD11 (power) "1.1-V core power rail", B11 VDDA_3P3 (power) "3.3-V analog power rail", B17 VDD11 (power) "1.1-V core power rail", B19 VDD11 (power) "1.1-V core power rail", B20 VSS (power) "Ground. The ground pad is labeled A53 for schematic purposes.", B21 VSS_OSC (power) "Oscillator return.If using a crystal, the load capacitors should use this signal as the return path and it should not be connected to the PCB ground. If using an oscillator, this should be connected to PCB Ground.", B22 VDDA_3P3 (power) "3.3-V analog power rail", B24 VDD11 (power) "1.1-V core power rail", B37 VDD11 (power) "1.1-V core power rail", B40 VDD11 (power) "1.1-V core power rail", B42 VDD11 (power) "1.1-V core power rail", B44 VDD11 (power) "1.1-V core power rail", C1 VSS_NC (power) "The corner pins, which are for mechanical stability of the package, are connected to ground internally. These pins may be connected to VSS or left unconnected.", C2 VSS_NC (power) "The corner pins, which are for mechanical stability of the package, are connected to ground internally. These pins may be connected to VSS or left unconnected.", C3 VSS_NC (power) "The corner pins, which are for mechanical stability of the package, are connected to ground internally. These pins may be connected to VSS or left unconnected.", C4 VSS_NC (power) "The corner pins, which are for mechanical stability of the package, are connected to ground internally. These pins may be connected to VSS or left unconnected."
part C pins: A5 NC "Pins are not connected internally. Note: TUSB7320 pins B4 and B26 may be connected to VDDA_3P3 to support a dual-layout option with theTUSB7340.", A7 NC "Pins are not connected internally. Note: TUSB7320 pins B4 and B26 may be connected to VDDA_3P3 to support a dual-layout option with theTUSB7340.", A8 NC "Pins are not connected internally. Note: TUSB7320 pins B4 and B26 may be connected to VDDA_3P3 to support a dual-layout option with theTUSB7340.", A14 NC "Pins are not connected internally. Note: TUSB7320 pins B4 and B26 may be connected to VDDA_3P3 to support a dual-layout option with theTUSB7340.", A26 NC "Pins are not connected internally. Note: TUSB7320 pins B4 and B26 may be connected to VDDA_3P3 to support a dual-layout option with theTUSB7340.", A27 NC "Pins are not connected internally. Note: TUSB7320 pins B4 and B26 may be connected to VDDA_3P3 to support a dual-layout option with theTUSB7340.", A29 NC "Pins are not connected internally. Note: TUSB7320 pins B4 and B26 may be connected to VDDA_3P3 to support a dual-layout option with theTUSB7340.", A30 NC "Pins are not connected internally. Note: TUSB7320 pins B4 and B26 may be connected to VDDA_3P3 to support a dual-layout option with theTUSB7340.", A43 NC "Pins are not connected internally. Note: TUSB7320 pins B4 and B26 may be connected to VDDA_3P3 to support a dual-layout option with theTUSB7340.", A46 NC "Pins are not connected internally. Note: TUSB7320 pins B4 and B26 may be connected to VDDA_3P3 to support a dual-layout option with theTUSB7340.", A48 NC "Pins are not connected internally. Note: TUSB7320 pins B4 and B26 may be connected to VDDA_3P3 to support a dual-layout option with theTUSB7340.", B4 NC "Pins are not connected internally. Note: TUSB7320 pins B4 and B26 may be connected to VDDA_3P3 to support a dual-layout option with theTUSB7340.", B5 NC "Pins are not connected internally. Note: TUSB7320 pins B4 and B26 may be connected to VDDA_3P3 to support a dual-layout option with theTUSB7340.", B6 NC "Pins are not connected internally. Note: TUSB7320 pins B4 and B26 may be connected to VDDA_3P3 to support a dual-layout option with theTUSB7340.", B7 NC "Pins are not connected internally. Note: TUSB7320 pins B4 and B26 may be connected to VDDA_3P3 to support a dual-layout option with theTUSB7340.", B8 NC "Pins are not connected internally. Note: TUSB7320 pins B4 and B26 may be connected to VDDA_3P3 to support a dual-layout option with theTUSB7340.", B13 NC "Pins are not connected internally. Note: TUSB7320 pins B4 and B26 may be connected to VDDA_3P3 to support a dual-layout option with theTUSB7340.", B25 NC "Pins are not connected internally. Note: TUSB7320 pins B4 and B26 may be connected to VDDA_3P3 to support a dual-layout option with theTUSB7340.", B26 NC "Pins are not connected internally. Note: TUSB7320 pins B4 and B26 may be connected to VDDA_3P3 to support a dual-layout option with theTUSB7340.", B27 NC "Pins are not connected internally. Note: TUSB7320 pins B4 and B26 may be connected to VDDA_3P3 to support a dual-layout option with theTUSB7340.", B28 NC "Pins are not connected internally. Note: TUSB7320 pins B4 and B26 may be connected to VDDA_3P3 to support a dual-layout option with theTUSB7340.", B29 NC "Pins are not connected internally. Note: TUSB7320 pins B4 and B26 may be connected to VDDA_3P3 to support a dual-layout option with theTUSB7340.", B43 NC "Pins are not connected internally. Note: TUSB7320 pins B4 and B26 may be connected to VDDA_3P3 to support a dual-layout option with theTUSB7340.", B45 NC "Pins are not connected internally. Note: TUSB7320 pins B4 and B26 may be connected to VDDA_3P3 to support a dual-layout option with theTUSB7340."